# Altium integrated library Microchip Mixed Signal.IntLib: 1063 symbols (part 26 of 28)
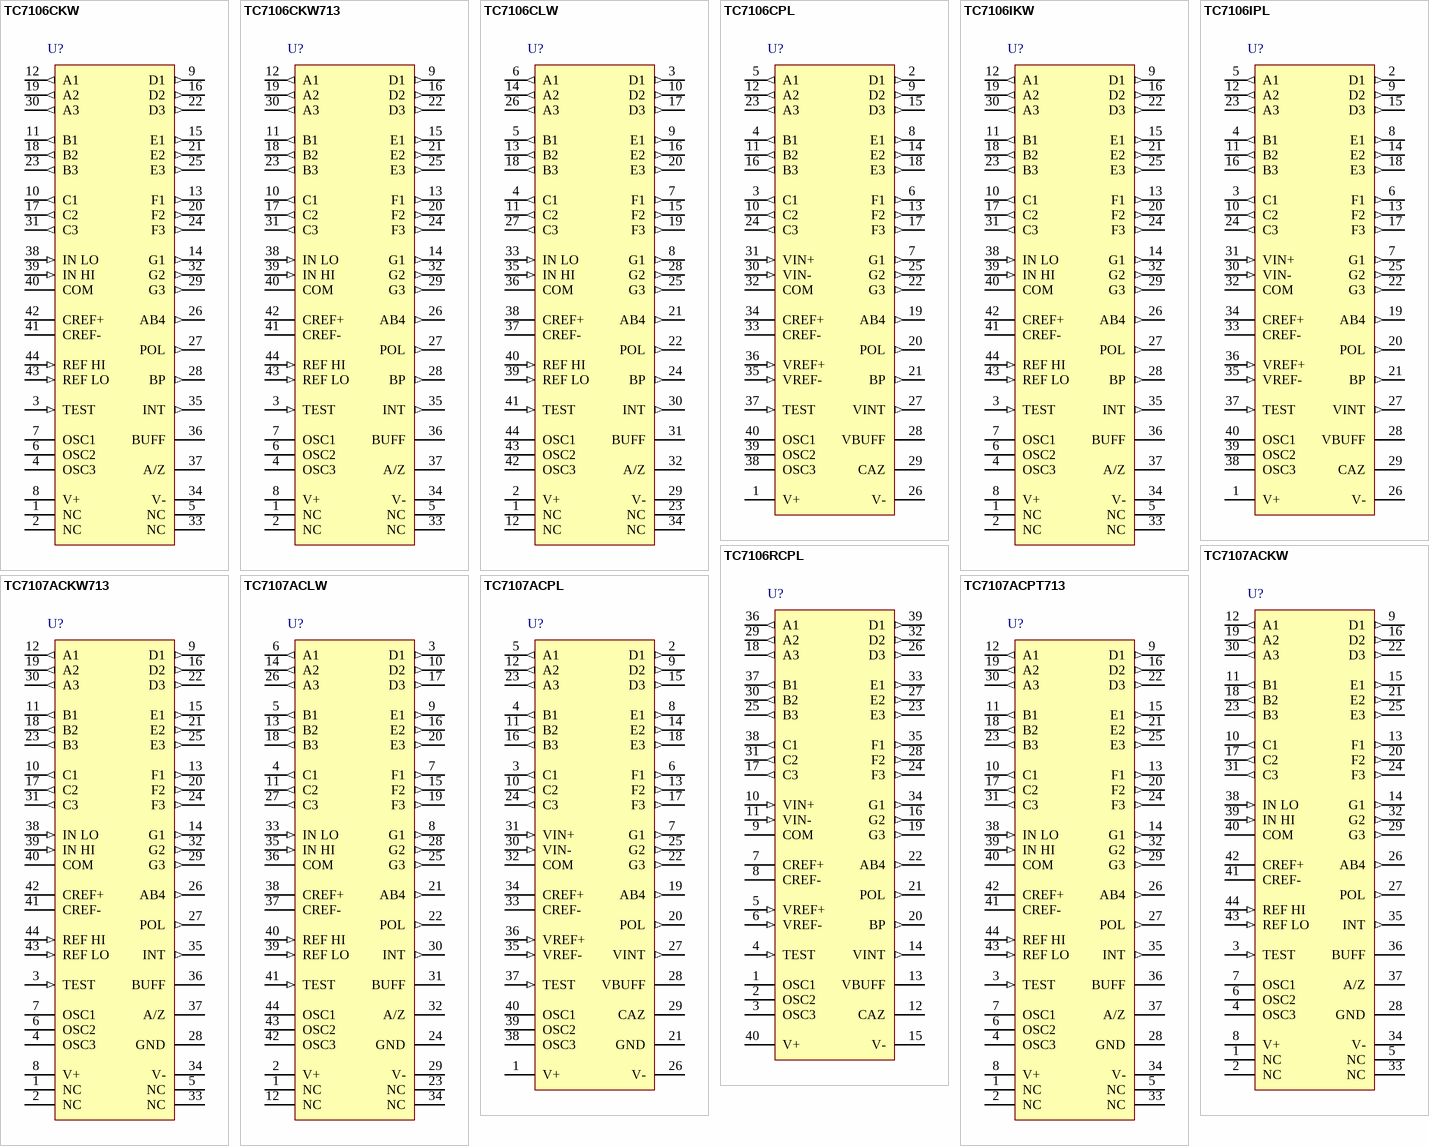
[diagram p56: symbols TC7106CKW to TC7107ACPT713]

## TC7106IPL
designator U?
3-1/2 Digit Analog-to-Digital Converters, 40-Pin PDIP, Industrial Temperature; Published: 29-Jan-2009; DatasheetVersion: revD, Feb-2008; PackageVersion: revBB, Aug-2009; PackageReference: PDIP600-PL40; Publisher: Altium Limited; PackageDescription: 40-Lead Plastic Dual In-Line (PL) - 600mil Body [PDIP]; Supplier 1: Digi-Key; Supplier Part Number 1: TC7106IPL-ND; ComponentLink1Description: Datasheet; ComponentLink1URL: http://ww1.microchip.com/downloads/en/DeviceDoc/21455d.pdf; ComponentLink2Description: Packaging Specification; ComponentLink2URL: http://www.microchip.com/stellent/groups/techpub_sg/documents/packagingspec/en012702.pdf; ComponentLink3Description: Microchip.com Home; ComponentLink3URL: http://www.microchip.com/
footprint PDIP600-PL40 (DIP, 40-Leads, Row Spacing 15.24mm, Pitch 2.54mm, Body 51.8x13.5mm)
pins: 1 V+ (power), 2 D1 (out), 3 C1 (out), 4 B1 (out), 5 A1 (out), 6 F1 (out), 7 G1 (out), 8 E1 (out), 9 D2 (out), 10 C2 (out), 11 B2 (out), 12 A2 (out), 13 F2 (out), 14 E2 (out), 15 D3 (out), 16 B3 (out), 17 F3 (out), 18 E3 (out), 19 AB4 (out), 20 POL (out), 21 BP (out), 22 G3 (out), 23 A3 (out), 24 C3 (out), 25 G2 (out), 26 V- (power), 27 VINT (out), 28 VBUFF, 29 CAZ, 30 VIN- (in), 31 VIN+ (in), 32 COM (power), 33 CREF-, 34 CREF+, 35 VREF- (in), 36 VREF+ (in), 37 TEST (in), 38 OSC3, 39 OSC2, 40 OSC1

## TC7106RCPL
designator U?
3-1/2 Digit Analog-to-Digital Converters, 40-Pin PDIP, Commercial Temperature; Published: 29-Jan-2009; DatasheetVersion: revD, Feb-2008; PackageVersion: revBB, Aug-2009; PackageReference: PDIP600-PL40; Publisher: Altium Limited; PackageDescription: 40-Lead Plastic Dual In-Line (PL) - 600mil Body [PDIP]; Supplier 1: Digi-Key; Supplier Part Number 1: TC7106RCPL-ND; ComponentLink1Description: Datasheet; ComponentLink1URL: http://ww1.microchip.com/downloads/en/DeviceDoc/21455d.pdf; ComponentLink2Description: Packaging Specification; ComponentLink2URL: http://www.microchip.com/stellent/groups/techpub_sg/documents/packagingspec/en012702.pdf; ComponentLink3Description: Microchip.com Home; ComponentLink3URL: http://www.microchip.com/
footprint PDIP600-PL40 (DIP, 40-Leads, Row Spacing 15.24mm, Pitch 2.54mm, Body 51.8x13.5mm)
pins: 1 OSC1, 2 OSC2, 3 OSC3, 4 TEST (in), 5 VREF+ (in), 6 VREF- (in), 7 CREF+, 8 CREF-, 9 COM (power), 10 VIN+ (in), 11 VIN- (in), 12 CAZ, 13 VBUFF, 14 VINT (out), 15 V- (power), 16 G2 (out), 17 C3 (out), 18 A3 (out), 19 G3 (out), 20 BP (out), 21 POL (out), 22 AB4 (out), 23 E3 (out), 24 F3 (out), 25 B3 (out), 26 D3 (out), 27 E2 (out), 28 F2 (out), 29 A2 (out), 30 B2 (out), 31 C2 (out), 32 D2 (out), 33 E1 (out), 34 G1 (out), 35 F1 (out), 36 A1 (out), 37 B1 (out), 38 C1 (out), 39 D1 (out), 40 V+ (power)

## TC7107ACKW
designator U?
3-1/2 Digit Analog-to-Digital Converters, 44-Pin MQFP, Commercial Temperature; Published: 29-Jan-2009; DatasheetVersion: revD, Feb-2008; PackageVersion: revBB, Aug-2009; PackageReference: MQFP-KW44; Publisher: Altium Limited; PackageDescription: 44-Lead Plastic Metric Quad Flatpack (KW) - 10x10x2mm Body, 3.20mm [MQFP]; Supplier 1: Digi-Key; Supplier Part Number 1: TC7107ACKW-ND; Code_JEDEC: MS-022-AB; Code_IPC: QFP80P1320X1320-44; ComponentLink1Description: Datasheet; ComponentLink1URL: http://ww1.microchip.com/downloads/en/DeviceDoc/21455d.pdf; ComponentLink2Description: Packaging Specification; ComponentLink2URL: http://www.microchip.com/stellent/groups/techpub_sg/documents/packagingspec/en012702.pdf; ComponentLink3Description: Microchip.com Home; ComponentLink3URL: http://www.microchip.com/
footprint MQFP-KW44_N (QFP, 44-Leads, Body 10x10mm, Pitch 0.8mm, IPC Medium Density)
footprint MQFP-KW44_L (QFP, 44-Leads, Body 10x10mm, Pitch 0.8mm, IPC High Density)
footprint MQFP-KW44_M (QFP, 44-Leads, Body 10x10mm, Pitch 0.8mm, IPC Low Density)
pins: 1 NC, 2 NC, 3 TEST (in), 4 OSC3, 5 NC, 6 OSC2, 7 OSC1, 8 V+ (power), 9 D1 (out), 10 C1 (out), 11 B1 (out), 12 A1 (out), 13 F1 (out), 14 G1 (out), 15 E1 (out), 16 D2 (out), 17 C2 (out), 18 B2 (out), 19 A2 (out), 20 F2 (out), 21 E2 (out), 22 D3 (out), 23 B3 (out), 24 F3 (out), 25 E3 (out), 26 AB4 (out), 27 POL (out), 28 GND (power), 29 G3 (out), 30 A3 (out), 31 C3 (out), 32 G2 (out), 33 NC, 34 V- (power), 35 INT (out), 36 BUFF, 37 A/Z, 38 IN LO (in), 39 IN HI (in), 40 COM (power), 41 CREF-, 42 CREF+, 43 REF LO (in), 44 REF HI (in)

## TC7107ACKW713
designator U?
3-1/2 Digit Analog-to-Digital Converters, 44-Pin MQFP, Commercial Temperature, Tape and Reel; Published: 29-Jan-2009; DatasheetVersion: revD, Feb-2008; PackageVersion: revBB, Aug-2009; PackageReference: MQFP-KW44; Publisher: Altium Limited; PackageDescription: 44-Lead Plastic Metric Quad Flatpack (KW) - 10x10x2mm Body, 3.20mm [MQFP]; Supplier 1: Digi-Key; Supplier Part Number 1: TC7107ACKW713-ND; Code_JEDEC: MS-022-AB; Code_IPC: QFP80P1320X1320-44; ComponentLink1Description: Datasheet; ComponentLink1URL: http://ww1.microchip.com/downloads/en/DeviceDoc/21455d.pdf; ComponentLink2Description: Packaging Specification; ComponentLink2URL: http://www.microchip.com/stellent/groups/techpub_sg/documents/packagingspec/en012702.pdf; ComponentLink3Description: Microchip.com Home; ComponentLink3URL: http://www.microchip.com/
footprint MQFP-KW44_N (QFP, 44-Leads, Body 10x10mm, Pitch 0.8mm, IPC Medium Density)
footprint MQFP-KW44_L (QFP, 44-Leads, Body 10x10mm, Pitch 0.8mm, IPC High Density)
footprint MQFP-KW44_M (QFP, 44-Leads, Body 10x10mm, Pitch 0.8mm, IPC Low Density)
pins: 1 NC, 2 NC, 3 TEST (in), 4 OSC3, 5 NC, 6 OSC2, 7 OSC1, 8 V+ (power), 9 D1 (out), 10 C1 (out), 11 B1 (out), 12 A1 (out), 13 F1 (out), 14 G1 (out), 15 E1 (out), 16 D2 (out), 17 C2 (out), 18 B2 (out), 19 A2 (out), 20 F2 (out), 21 E2 (out), 22 D3 (out), 23 B3 (out), 24 F3 (out), 25 E3 (out), 26 AB4 (out), 27 POL (out), 28 GND (power), 29 G3 (out), 30 A3 (out), 31 C3 (out), 32 G2 (out), 33 NC, 34 V- (power), 35 INT (out), 36 BUFF, 37 A/Z, 38 IN LO (in), 39 IN HI (in), 40 COM (power), 41 CREF-, 42 CREF+, 43 REF LO (in), 44 REF HI (in)

## TC7107ACLW
designator U?
3-1/2 Digit Analog-to-Digital Converters, 44-Pin PLCC, Commercial Temperature; Published: 29-Jan-2009; DatasheetVersion: revD, Feb-2008; PackageVersion: revBB, Aug-2009; PackageReference: PLCC-LW44; Publisher: Altium Limited; PackageDescription: 44-Lead Plastic Leaded Chip Carrier (LW) - Square [PLCC]; Supplier 1: Digi-Key; Supplier Part Number 1: TC7107ACLW-ND; Supplier 2: Farnell; Supplier Part Number 2: 3011161; Code_IPC: PLCC-44; ComponentLink1Description: Datasheet; ComponentLink1URL: http://ww1.microchip.com/downloads/en/DeviceDoc/21455d.pdf; ComponentLink2Description: Packaging Specification; ComponentLink2URL: http://www.microchip.com/stellent/groups/techpub_sg/documents/packagingspec/en012702.pdf; ComponentLink3Description: Microchip.com Home; ComponentLink3URL: http://www.microchip.com/
footprint PLCC-LW44_N (Leaded Chip Carrier, 44-Leads, Body 16.6x16.6mm, Pitch 1.27mm, IPC Medium Density)
footprint PLCC-LW44_L (Leaded Chip Carrier, 44-Leads, Body 16.6x16.6mm, Pitch 1.27mm, IPC High Density)
footprint PLCC-LW44_M (Leaded Chip Carrier, 44-Leads, Body 16.6x16.6mm, Pitch 1.27mm, IPC Low Density)
pins: 1 NC, 2 V+ (power), 3 D1 (out), 4 C1 (out), 5 B1 (out), 6 A1 (out), 7 F1 (out), 8 G1 (out), 9 E1 (out), 10 D2 (out), 11 C2 (out), 12 NC, 13 B2 (out), 14 A2 (out), 15 F2 (out), 16 E2 (out), 17 D3 (out), 18 B3 (out), 19 F3 (out), 20 E3 (out), 21 AB4 (out), 22 POL (out), 23 NC, 24 GND (power), 25 G3 (out), 26 A3 (out), 27 C3 (out), 28 G2 (out), 29 V- (power), 30 INT (out), 31 BUFF, 32 A/Z, 33 IN LO (in), 34 NC, 35 IN HI (in), 36 COM (power), 37 CREF-, 38 CREF+, 39 REF LO (in), 40 REF HI (in), 41 TEST (in), 42 OSC3, 43 OSC2, 44 OSC1

## TC7107ACPL
designator U?
3-1/2 Digit Analog-to-Digital Converters, 40-Pin PDIP, Commercial Temperature; Published: 29-Jan-2009; DatasheetVersion: revD, Feb-2008; PackageVersion: revBB, Aug-2009; PackageReference: PDIP600-PL40; Publisher: Altium Limited; PackageDescription: 40-Lead Plastic Dual In-Line (PL) - 600mil Body [PDIP]; Supplier 1: Digi-Key; Supplier Part Number 1: TC7107ACPL-ND; Supplier 2: Farnell; Supplier Part Number 2: 1252911; ComponentLink1Description: Datasheet; ComponentLink1URL: http://ww1.microchip.com/downloads/en/DeviceDoc/21455d.pdf; ComponentLink2Description: Packaging Specification; ComponentLink2URL: http://www.microchip.com/stellent/groups/techpub_sg/documents/packagingspec/en012702.pdf; ComponentLink3Description: Microchip.com Home; ComponentLink3URL: http://www.microchip.com/
footprint PDIP600-PL40 (DIP, 40-Leads, Row Spacing 15.24mm, Pitch 2.54mm, Body 51.8x13.5mm)
pins: 1 V+ (power), 2 D1 (out), 3 C1 (out), 4 B1 (out), 5 A1 (out), 6 F1 (out), 7 G1 (out), 8 E1 (out), 9 D2 (out), 10 C2 (out), 11 B2 (out), 12 A2 (out), 13 F2 (out), 14 E2 (out), 15 D3 (out), 16 B3 (out), 17 F3 (out), 18 E3 (out), 19 AB4 (out), 20 POL (out), 21 GND (power), 22 G3 (out), 23 A3 (out), 24 C3 (out), 25 G2 (out), 26 V- (power), 27 VINT (out), 28 VBUFF, 29 CAZ, 30 VIN- (in), 31 VIN+ (in), 32 COM (power), 33 CREF-, 34 CREF+, 35 VREF- (in), 36 VREF+ (in), 37 TEST (in), 38 OSC3, 39 OSC2, 40 OSC1

## TC7107ACPT713
designator U?
3-1/2 Digit Analog-to-Digital Converters, 44-Pin TQFP, Commercial Temperature, Tape and Reel; Published: 2-Dec-2009; DatasheetVersion: revD, Feb-2008; PackageVersion: revBB, Aug-2009; PackageReference: TQFP-PT44; Publisher: Altium Limited; PackageDescription: 44-Lead Plastic Thin Quad Flatpack (PT) - 10x10x1mm Body, 2.00mm [TQFP]; Code_JEDEC: MS-026; ComponentLink1Description: Datasheet; ComponentLink1URL: http://ww1.microchip.com/downloads/en/DeviceDoc/21455d.pdf; ComponentLink2Description: Packaging Specification; ComponentLink2URL: http://www.microchip.com/stellent/groups/techpub_sg/documents/packagingspec/en012702.pdf; ComponentLink3Description: Microchip.com Home; ComponentLink3URL: http://www.microchip.com/
footprint TQFP-PT44_N (Thin QFP, 44-Leads, Body 10x10mm, Pitch 0.8mm, IPC Medium Density)
footprint TQFP-PT44_L (Thin QFP, 44-Leads, Body 10x10mm, Pitch 0.8mm, IPC High Density)
footprint TQFP-PT44_M (Thin QFP, 44-Leads, Body 10x10mm, Pitch 0.8mm, IPC Low Density)
pins: 1 NC, 2 NC, 3 TEST (in), 4 OSC3, 5 NC, 6 OSC2, 7 OSC1, 8 V+ (power), 9 D1 (out), 10 C1 (out), 11 B1 (out), 12 A1 (out), 13 F1 (out), 14 G1 (out), 15 E1 (out), 16 D2 (out), 17 C2 (out), 18 B2 (out), 19 A2 (out), 20 F2 (out), 21 E2 (out), 22 D3 (out), 23 B3 (out), 24 F3 (out), 25 E3 (out), 26 AB4 (out), 27 POL (out), 28 GND (power), 29 G3 (out), 30 A3 (out), 31 C3 (out), 32 G2 (out), 33 NC, 34 V- (power), 35 INT (out), 36 BUFF, 37 A/Z, 38 IN LO (in), 39 IN HI (in), 40 COM (power), 41 CREF-, 42 CREF+, 43 REF LO (in), 44 REF HI (in)

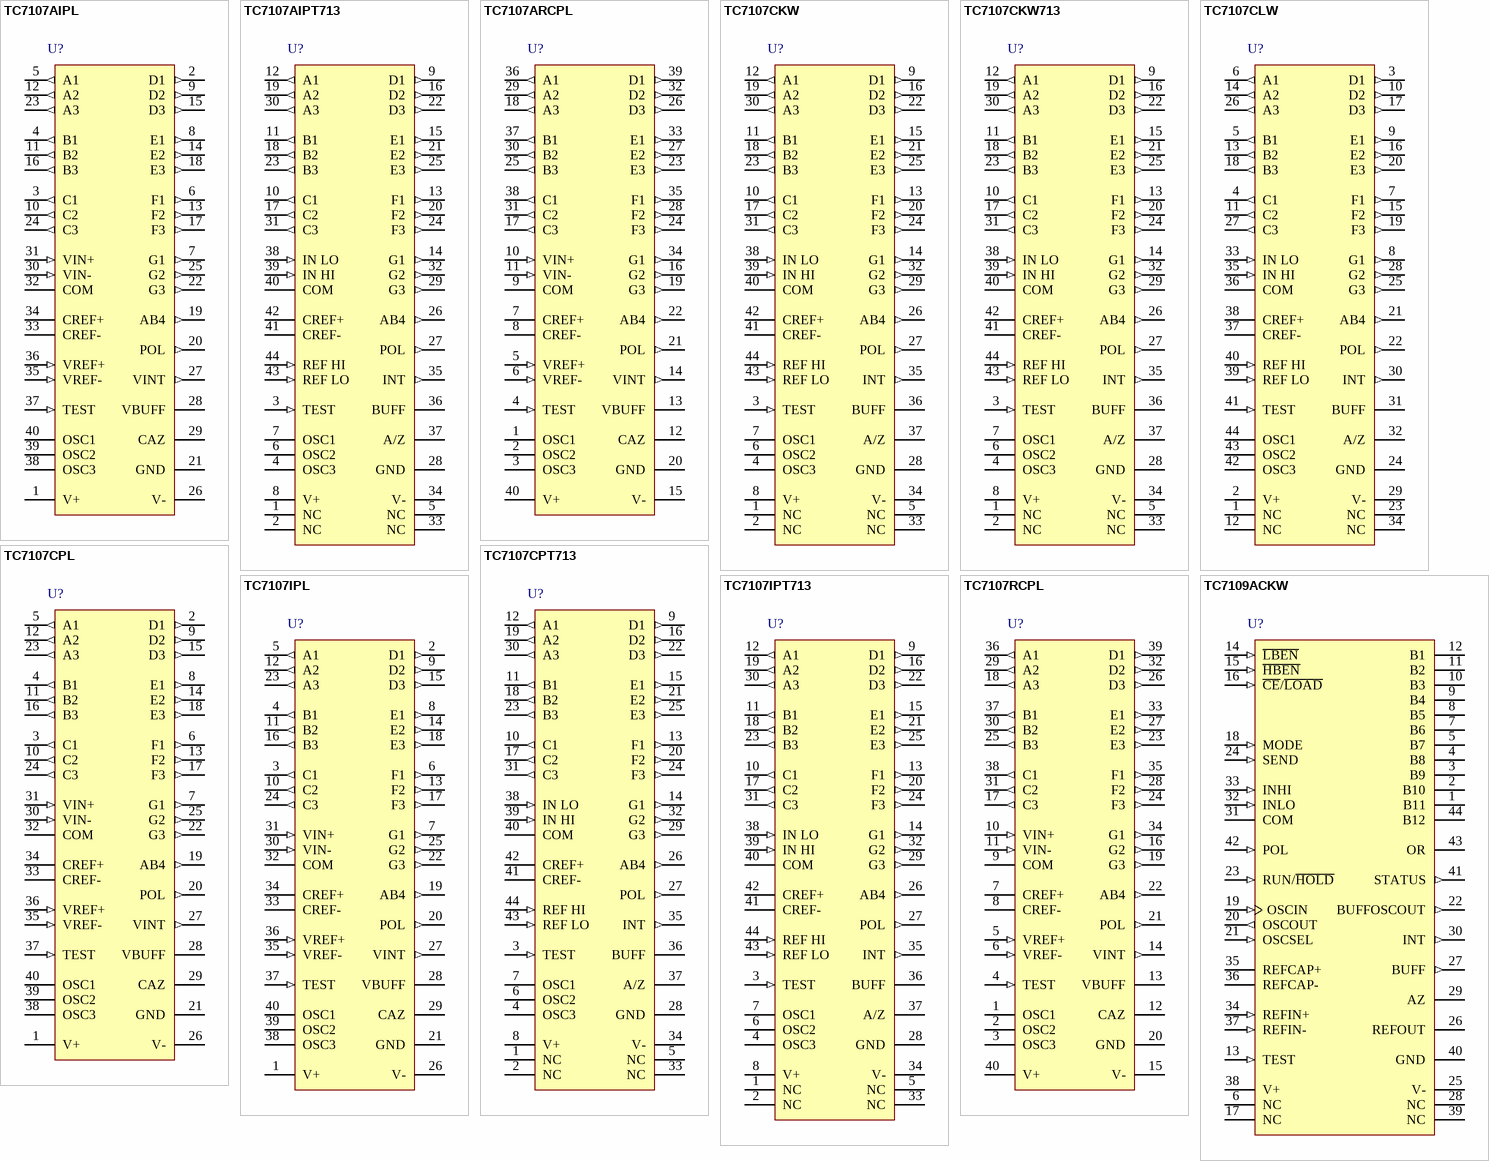
[diagram p27: symbols TC7107AIPL to TC7109ACKW]

## TC7107AIPL
designator U?
3-1/2 Digit Analog-to-Digital Converters, 40-Pin PDIP, Industrial Temperature; Published: 29-Jan-2009; DatasheetVersion: revD, Feb-2008; PackageVersion: revBB, Aug-2009; PackageReference: PDIP600-PL40; Publisher: Altium Limited; PackageDescription: 40-Lead Plastic Dual In-Line (PL) - 600mil Body [PDIP]; Supplier 1: Digi-Key; Supplier Part Number 1: TC7107AIPL-ND; ComponentLink1Description: Datasheet; ComponentLink1URL: http://ww1.microchip.com/downloads/en/DeviceDoc/21455d.pdf; ComponentLink2Description: Packaging Specification; ComponentLink2URL: http://www.microchip.com/stellent/groups/techpub_sg/documents/packagingspec/en012702.pdf; ComponentLink3Description: Microchip.com Home; ComponentLink3URL: http://www.microchip.com/
footprint PDIP600-PL40 (DIP, 40-Leads, Row Spacing 15.24mm, Pitch 2.54mm, Body 51.8x13.5mm)
pins: 1 V+ (power), 2 D1 (out), 3 C1 (out), 4 B1 (out), 5 A1 (out), 6 F1 (out), 7 G1 (out), 8 E1 (out), 9 D2 (out), 10 C2 (out), 11 B2 (out), 12 A2 (out), 13 F2 (out), 14 E2 (out), 15 D3 (out), 16 B3 (out), 17 F3 (out), 18 E3 (out), 19 AB4 (out), 20 POL (out), 21 GND (power), 22 G3 (out), 23 A3 (out), 24 C3 (out), 25 G2 (out), 26 V- (power), 27 VINT (out), 28 VBUFF, 29 CAZ, 30 VIN- (in), 31 VIN+ (in), 32 COM (power), 33 CREF-, 34 CREF+, 35 VREF- (in), 36 VREF+ (in), 37 TEST (in), 38 OSC3, 39 OSC2, 40 OSC1

## TC7107AIPT713
designator U?
3-1/2 Digit Analog-to-Digital Converters, 44-Pin TQFP, Industrial Temperature, Tape and Reel; Published: 2-Dec-2009; DatasheetVersion: revD, Feb-2008; PackageVersion: revBB, Aug-2009; PackageReference: TQFP-PT44; Publisher: Altium Limited; PackageDescription: 44-Lead Plastic Thin Quad Flatpack (PT) - 10x10x1mm Body, 2.00mm [TQFP]; Code_JEDEC: MS-026; ComponentLink1Description: Datasheet; ComponentLink1URL: http://ww1.microchip.com/downloads/en/DeviceDoc/21455d.pdf; ComponentLink2Description: Packaging Specification; ComponentLink2URL: http://www.microchip.com/stellent/groups/techpub_sg/documents/packagingspec/en012702.pdf; ComponentLink3Description: Microchip.com Home; ComponentLink3URL: http://www.microchip.com/
footprint TQFP-PT44_N (Thin QFP, 44-Leads, Body 10x10mm, Pitch 0.8mm, IPC Medium Density)
footprint TQFP-PT44_L (Thin QFP, 44-Leads, Body 10x10mm, Pitch 0.8mm, IPC High Density)
footprint TQFP-PT44_M (Thin QFP, 44-Leads, Body 10x10mm, Pitch 0.8mm, IPC Low Density)
pins: 1 NC, 2 NC, 3 TEST (in), 4 OSC3, 5 NC, 6 OSC2, 7 OSC1, 8 V+ (power), 9 D1 (out), 10 C1 (out), 11 B1 (out), 12 A1 (out), 13 F1 (out), 14 G1 (out), 15 E1 (out), 16 D2 (out), 17 C2 (out), 18 B2 (out), 19 A2 (out), 20 F2 (out), 21 E2 (out), 22 D3 (out), 23 B3 (out), 24 F3 (out), 25 E3 (out), 26 AB4 (out), 27 POL (out), 28 GND (power), 29 G3 (out), 30 A3 (out), 31 C3 (out), 32 G2 (out), 33 NC, 34 V- (power), 35 INT (out), 36 BUFF, 37 A/Z, 38 IN LO (in), 39 IN HI (in), 40 COM (power), 41 CREF-, 42 CREF+, 43 REF LO (in), 44 REF HI (in)

## TC7107ARCPL
designator U?
3-1/2 Digit Analog-to-Digital Converters, 40-Pin PDIP, Commercial Temperature; Published: 29-Jan-2009; DatasheetVersion: revD, Feb-2008; PackageVersion: revBB, Aug-2009; PackageReference: PDIP600-PL40; Publisher: Altium Limited; PackageDescription: 40-Lead Plastic Dual In-Line (PL) - 600mil Body [PDIP]; Supplier 1: Digi-Key; Supplier Part Number 1: TC7107ARCPL-ND; ComponentLink1Description: Datasheet; ComponentLink1URL: http://ww1.microchip.com/downloads/en/DeviceDoc/21455d.pdf; ComponentLink2Description: Packaging Specification; ComponentLink2URL: http://www.microchip.com/stellent/groups/techpub_sg/documents/packagingspec/en012702.pdf; ComponentLink3Description: Microchip.com Home; ComponentLink3URL: http://www.microchip.com/
footprint PDIP600-PL40 (DIP, 40-Leads, Row Spacing 15.24mm, Pitch 2.54mm, Body 51.8x13.5mm)
pins: 1 OSC1, 2 OSC2, 3 OSC3, 4 TEST (in), 5 VREF+ (in), 6 VREF- (in), 7 CREF+, 8 CREF-, 9 COM (power), 10 VIN+ (in), 11 VIN- (in), 12 CAZ, 13 VBUFF, 14 VINT (out), 15 V- (power), 16 G2 (out), 17 C3 (out), 18 A3 (out), 19 G3 (out), 20 GND (power), 21 POL (out), 22 AB4 (out), 23 E3 (out), 24 F3 (out), 25 B3 (out), 26 D3 (out), 27 E2 (out), 28 F2 (out), 29 A2 (out), 30 B2 (out), 31 C2 (out), 32 D2 (out), 33 E1 (out), 34 G1 (out), 35 F1 (out), 36 A1 (out), 37 B1 (out), 38 C1 (out), 39 D1 (out), 40 V+ (power)

## TC7107CKW
designator U?
3-1/2 Digit Analog-to-Digital Converters, 44-Pin MQFP, Commercial Temperature; Published: 29-Jan-2009; DatasheetVersion: revD, Feb-2008; PackageVersion: revBB, Aug-2009; PackageReference: MQFP-KW44; Publisher: Altium Limited; PackageDescription: 44-Lead Plastic Metric Quad Flatpack (KW) - 10x10x2mm Body, 3.20mm [MQFP]; Supplier 1: Digi-Key; Supplier Part Number 1: TC7107CKW-ND; Code_JEDEC: MS-022-AB; Code_IPC: QFP80P1320X1320-44; ComponentLink1Description: Datasheet; ComponentLink1URL: http://ww1.microchip.com/downloads/en/DeviceDoc/21455d.pdf; ComponentLink2Description: Packaging Specification; ComponentLink2URL: http://www.microchip.com/stellent/groups/techpub_sg/documents/packagingspec/en012702.pdf; ComponentLink3Description: Microchip.com Home; ComponentLink3URL: http://www.microchip.com/
footprint MQFP-KW44_N (QFP, 44-Leads, Body 10x10mm, Pitch 0.8mm, IPC Medium Density)
footprint MQFP-KW44_L (QFP, 44-Leads, Body 10x10mm, Pitch 0.8mm, IPC High Density)
footprint MQFP-KW44_M (QFP, 44-Leads, Body 10x10mm, Pitch 0.8mm, IPC Low Density)
pins: 1 NC, 2 NC, 3 TEST (in), 4 OSC3, 5 NC, 6 OSC2, 7 OSC1, 8 V+ (power), 9 D1 (out), 10 C1 (out), 11 B1 (out), 12 A1 (out), 13 F1 (out), 14 G1 (out), 15 E1 (out), 16 D2 (out), 17 C2 (out), 18 B2 (out), 19 A2 (out), 20 F2 (out), 21 E2 (out), 22 D3 (out), 23 B3 (out), 24 F3 (out), 25 E3 (out), 26 AB4 (out), 27 POL (out), 28 GND (power), 29 G3 (out), 30 A3 (out), 31 C3 (out), 32 G2 (out), 33 NC, 34 V- (power), 35 INT (out), 36 BUFF, 37 A/Z, 38 IN LO (in), 39 IN HI (in), 40 COM (power), 41 CREF-, 42 CREF+, 43 REF LO (in), 44 REF HI (in)

## TC7107CKW713
designator U?
3-1/2 Digit Analog-to-Digital Converters, 44-Pin MQFP, Commercial Temperature, Tape and Reel; Published: 29-Jan-2009; DatasheetVersion: revD, Feb-2008; PackageVersion: revBB, Aug-2009; PackageReference: MQFP-KW44; Publisher: Altium Limited; PackageDescription: 44-Lead Plastic Metric Quad Flatpack (KW) - 10x10x2mm Body, 3.20mm [MQFP]; Supplier 1: Digi-Key; Supplier Part Number 1: TC7107CKW713-ND; Code_JEDEC: MS-022-AB; Code_IPC: QFP80P1320X1320-44; ComponentLink1Description: Datasheet; ComponentLink1URL: http://ww1.microchip.com/downloads/en/DeviceDoc/21455d.pdf; ComponentLink2Description: Packaging Specification; ComponentLink2URL: http://www.microchip.com/stellent/groups/techpub_sg/documents/packagingspec/en012702.pdf; ComponentLink3Description: Microchip.com Home; ComponentLink3URL: http://www.microchip.com/
footprint MQFP-KW44_N (QFP, 44-Leads, Body 10x10mm, Pitch 0.8mm, IPC Medium Density)
footprint MQFP-KW44_L (QFP, 44-Leads, Body 10x10mm, Pitch 0.8mm, IPC High Density)
footprint MQFP-KW44_M (QFP, 44-Leads, Body 10x10mm, Pitch 0.8mm, IPC Low Density)
pins: 1 NC, 2 NC, 3 TEST (in), 4 OSC3, 5 NC, 6 OSC2, 7 OSC1, 8 V+ (power), 9 D1 (out), 10 C1 (out), 11 B1 (out), 12 A1 (out), 13 F1 (out), 14 G1 (out), 15 E1 (out), 16 D2 (out), 17 C2 (out), 18 B2 (out), 19 A2 (out), 20 F2 (out), 21 E2 (out), 22 D3 (out), 23 B3 (out), 24 F3 (out), 25 E3 (out), 26 AB4 (out), 27 POL (out), 28 GND (power), 29 G3 (out), 30 A3 (out), 31 C3 (out), 32 G2 (out), 33 NC, 34 V- (power), 35 INT (out), 36 BUFF, 37 A/Z, 38 IN LO (in), 39 IN HI (in), 40 COM (power), 41 CREF-, 42 CREF+, 43 REF LO (in), 44 REF HI (in)

## TC7107CLW
designator U?
3-1/2 Digit Analog-to-Digital Converters, 44-Pin PLCC, Commercial Temperature; Published: 29-Jan-2009; DatasheetVersion: revD, Feb-2008; PackageVersion: revBB, Aug-2009; PackageReference: PLCC-LW44; Publisher: Altium Limited; PackageDescription: 44-Lead Plastic Leaded Chip Carrier (LW) - Square [PLCC]; Supplier 1: Digi-Key; Supplier Part Number 1: TC7107CLW-ND; Code_IPC: PLCC-44; ComponentLink1Description: Datasheet; ComponentLink1URL: http://ww1.microchip.com/downloads/en/DeviceDoc/21455d.pdf; ComponentLink2Description: Packaging Specification; ComponentLink2URL: http://www.microchip.com/stellent/groups/techpub_sg/documents/packagingspec/en012702.pdf; ComponentLink3Description: Microchip.com Home; ComponentLink3URL: http://www.microchip.com/
footprint PLCC-LW44_N (Leaded Chip Carrier, 44-Leads, Body 16.6x16.6mm, Pitch 1.27mm, IPC Medium Density)
footprint PLCC-LW44_L (Leaded Chip Carrier, 44-Leads, Body 16.6x16.6mm, Pitch 1.27mm, IPC High Density)
footprint PLCC-LW44_M (Leaded Chip Carrier, 44-Leads, Body 16.6x16.6mm, Pitch 1.27mm, IPC Low Density)
pins: 1 NC, 2 V+ (power), 3 D1 (out), 4 C1 (out), 5 B1 (out), 6 A1 (out), 7 F1 (out), 8 G1 (out), 9 E1 (out), 10 D2 (out), 11 C2 (out), 12 NC, 13 B2 (out), 14 A2 (out), 15 F2 (out), 16 E2 (out), 17 D3 (out), 18 B3 (out), 19 F3 (out), 20 E3 (out), 21 AB4 (out), 22 POL (out), 23 NC, 24 GND (power), 25 G3 (out), 26 A3 (out), 27 C3 (out), 28 G2 (out), 29 V- (power), 30 INT (out), 31 BUFF, 32 A/Z, 33 IN LO (in), 34 NC, 35 IN HI (in), 36 COM (power), 37 CREF-, 38 CREF+, 39 REF LO (in), 40 REF HI (in), 41 TEST (in), 42 OSC3, 43 OSC2, 44 OSC1

## TC7107CPL
designator U?
3-1/2 Digit Analog-to-Digital Converters, 40-Pin PDIP, Commercial Temperature; Published: 29-Jan-2009; DatasheetVersion: revD, Feb-2008; PackageVersion: revBB, Aug-2009; PackageReference: PDIP600-PL40; Publisher: Altium Limited; PackageDescription: 40-Lead Plastic Dual In-Line (PL) - 600mil Body [PDIP]; Supplier 1: Digi-Key; Supplier Part Number 1: TC7107CPL-ND; Supplier 2: Farnell; Supplier Part Number 2: 1196783; ComponentLink1Description: Datasheet; ComponentLink1URL: http://ww1.microchip.com/downloads/en/DeviceDoc/21455d.pdf; ComponentLink2Description: Packaging Specification; ComponentLink2URL: http://www.microchip.com/stellent/groups/techpub_sg/documents/packagingspec/en012702.pdf; ComponentLink3Description: Microchip.com Home; ComponentLink3URL: http://www.microchip.com/
footprint PDIP600-PL40 (DIP, 40-Leads, Row Spacing 15.24mm, Pitch 2.54mm, Body 51.8x13.5mm)
pins: 1 V+ (power), 2 D1 (out), 3 C1 (out), 4 B1 (out), 5 A1 (out), 6 F1 (out), 7 G1 (out), 8 E1 (out), 9 D2 (out), 10 C2 (out), 11 B2 (out), 12 A2 (out), 13 F2 (out), 14 E2 (out), 15 D3 (out), 16 B3 (out), 17 F3 (out), 18 E3 (out), 19 AB4 (out), 20 POL (out), 21 GND (power), 22 G3 (out), 23 A3 (out), 24 C3 (out), 25 G2 (out), 26 V- (power), 27 VINT (out), 28 VBUFF, 29 CAZ, 30 VIN- (in), 31 VIN+ (in), 32 COM (power), 33 CREF-, 34 CREF+, 35 VREF- (in), 36 VREF+ (in), 37 TEST (in), 38 OSC3, 39 OSC2, 40 OSC1

## TC7107CPT713
designator U?
3-1/2 Digit Analog-to-Digital Converters, 44-Pin TQFP, Commercial Temperature, Tape and Reel; Published: 2-Dec-2009; DatasheetVersion: revD, Feb-2008; PackageVersion: revBB, Aug-2009; PackageReference: TQFP-PT44; Publisher: Altium Limited; PackageDescription: 44-Lead Plastic Thin Quad Flatpack (PT) - 10x10x1mm Body, 2.00mm [TQFP]; Code_JEDEC: MS-026; ComponentLink1Description: Datasheet; ComponentLink1URL: http://ww1.microchip.com/downloads/en/DeviceDoc/21455d.pdf; ComponentLink2Description: Packaging Specification; ComponentLink2URL: http://www.microchip.com/stellent/groups/techpub_sg/documents/packagingspec/en012702.pdf; ComponentLink3Description: Microchip.com Home; ComponentLink3URL: http://www.microchip.com/
footprint TQFP-PT44_N (Thin QFP, 44-Leads, Body 10x10mm, Pitch 0.8mm, IPC Medium Density)
footprint TQFP-PT44_L (Thin QFP, 44-Leads, Body 10x10mm, Pitch 0.8mm, IPC High Density)
footprint TQFP-PT44_M (Thin QFP, 44-Leads, Body 10x10mm, Pitch 0.8mm, IPC Low Density)
pins: 1 NC, 2 NC, 3 TEST (in), 4 OSC3, 5 NC, 6 OSC2, 7 OSC1, 8 V+ (power), 9 D1 (out), 10 C1 (out), 11 B1 (out), 12 A1 (out), 13 F1 (out), 14 G1 (out), 15 E1 (out), 16 D2 (out), 17 C2 (out), 18 B2 (out), 19 A2 (out), 20 F2 (out), 21 E2 (out), 22 D3 (out), 23 B3 (out), 24 F3 (out), 25 E3 (out), 26 AB4 (out), 27 POL (out), 28 GND (power), 29 G3 (out), 30 A3 (out), 31 C3 (out), 32 G2 (out), 33 NC, 34 V- (power), 35 INT (out), 36 BUFF, 37 A/Z, 38 IN LO (in), 39 IN HI (in), 40 COM (power), 41 CREF-, 42 CREF+, 43 REF LO (in), 44 REF HI (in)

## TC7107IPL
designator U?
3-1/2 Digit Analog-to-Digital Converters, 40-Pin PDIP, Industrial Temperature; Published: 29-Jan-2009; DatasheetVersion: revD, Feb-2008; PackageVersion: revBB, Aug-2009; PackageReference: PDIP600-PL40; Publisher: Altium Limited; PackageDescription: 40-Lead Plastic Dual In-Line (PL) - 600mil Body [PDIP]; Supplier 1: Digi-Key; Supplier Part Number 1: TC7107IPL-ND; ComponentLink1Description: Datasheet; ComponentLink1URL: http://ww1.microchip.com/downloads/en/DeviceDoc/21455d.pdf; ComponentLink2Description: Packaging Specification; ComponentLink2URL: http://www.microchip.com/stellent/groups/techpub_sg/documents/packagingspec/en012702.pdf; ComponentLink3Description: Microchip.com Home; ComponentLink3URL: http://www.microchip.com/
footprint PDIP600-PL40 (DIP, 40-Leads, Row Spacing 15.24mm, Pitch 2.54mm, Body 51.8x13.5mm)
pins: 1 V+ (power), 2 D1 (out), 3 C1 (out), 4 B1 (out), 5 A1 (out), 6 F1 (out), 7 G1 (out), 8 E1 (out), 9 D2 (out), 10 C2 (out), 11 B2 (out), 12 A2 (out), 13 F2 (out), 14 E2 (out), 15 D3 (out), 16 B3 (out), 17 F3 (out), 18 E3 (out), 19 AB4 (out), 20 POL (out), 21 GND (power), 22 G3 (out), 23 A3 (out), 24 C3 (out), 25 G2 (out), 26 V- (power), 27 VINT (out), 28 VBUFF, 29 CAZ, 30 VIN- (in), 31 VIN+ (in), 32 COM (power), 33 CREF-, 34 CREF+, 35 VREF- (in), 36 VREF+ (in), 37 TEST (in), 38 OSC3, 39 OSC2, 40 OSC1

## TC7107IPT713
designator U?
3-1/2 Digit Analog-to-Digital Converters, 44-Pin TQFP, Industrial Temperature, Tape and Reel; Published: 2-Dec-2009; DatasheetVersion: revD, Feb-2008; PackageVersion: revBB, Aug-2009; PackageReference: TQFP-PT44; Publisher: Altium Limited; PackageDescription: 44-Lead Plastic Thin Quad Flatpack (PT) - 10x10x1mm Body, 2.00mm [TQFP]; Code_JEDEC: MS-026; ComponentLink1Description: Datasheet; ComponentLink1URL: http://ww1.microchip.com/downloads/en/DeviceDoc/21455d.pdf; ComponentLink2Description: Packaging Specification; ComponentLink2URL: http://www.microchip.com/stellent/groups/techpub_sg/documents/packagingspec/en012702.pdf; ComponentLink3Description: Microchip.com Home; ComponentLink3URL: http://www.microchip.com/
footprint TQFP-PT44_N (Thin QFP, 44-Leads, Body 10x10mm, Pitch 0.8mm, IPC Medium Density)
footprint TQFP-PT44_L (Thin QFP, 44-Leads, Body 10x10mm, Pitch 0.8mm, IPC High Density)
footprint TQFP-PT44_M (Thin QFP, 44-Leads, Body 10x10mm, Pitch 0.8mm, IPC Low Density)
pins: 1 NC, 2 NC, 3 TEST (in), 4 OSC3, 5 NC, 6 OSC2, 7 OSC1, 8 V+ (power), 9 D1 (out), 10 C1 (out), 11 B1 (out), 12 A1 (out), 13 F1 (out), 14 G1 (out), 15 E1 (out), 16 D2 (out), 17 C2 (out), 18 B2 (out), 19 A2 (out), 20 F2 (out), 21 E2 (out), 22 D3 (out), 23 B3 (out), 24 F3 (out), 25 E3 (out), 26 AB4 (out), 27 POL (out), 28 GND (power), 29 G3 (out), 30 A3 (out), 31 C3 (out), 32 G2 (out), 33 NC, 34 V- (power), 35 INT (out), 36 BUFF, 37 A/Z, 38 IN LO (in), 39 IN HI (in), 40 COM (power), 41 CREF-, 42 CREF+, 43 REF LO (in), 44 REF HI (in)

## TC7107RCPL
designator U?
3-1/2 Digit Analog-to-Digital Converters, 40-Pin PDIP, Commercial Temperature; Published: 29-Jan-2009; DatasheetVersion: revD, Feb-2008; PackageVersion: revBB, Aug-2009; PackageReference: PDIP600-PL40; Publisher: Altium Limited; PackageDescription: 40-Lead Plastic Dual In-Line (PL) - 600mil Body [PDIP]; Supplier 1: Digi-Key; Supplier Part Number 1: TC7107RCPL-ND; Supplier 2: Farnell; Supplier Part Number 2: 1221761; ComponentLink1Description: Datasheet; ComponentLink1URL: http://ww1.microchip.com/downloads/en/DeviceDoc/21455d.pdf; ComponentLink2Description: Packaging Specification; ComponentLink2URL: http://www.microchip.com/stellent/groups/techpub_sg/documents/packagingspec/en012702.pdf; ComponentLink3Description: Microchip.com Home; ComponentLink3URL: http://www.microchip.com/
footprint PDIP600-PL40 (DIP, 40-Leads, Row Spacing 15.24mm, Pitch 2.54mm, Body 51.8x13.5mm)
pins: 1 OSC1, 2 OSC2, 3 OSC3, 4 TEST (in), 5 VREF+ (in), 6 VREF- (in), 7 CREF+, 8 CREF-, 9 COM (power), 10 VIN+ (in), 11 VIN- (in), 12 CAZ, 13 VBUFF, 14 VINT (out), 15 V- (power), 16 G2 (out), 17 C3 (out), 18 A3 (out), 19 G3 (out), 20 GND (power), 21 POL (out), 22 AB4 (out), 23 E3 (out), 24 F3 (out), 25 B3 (out), 26 D3 (out), 27 E2 (out), 28 F2 (out), 29 A2 (out), 30 B2 (out), 31 C2 (out), 32 D2 (out), 33 E1 (out), 34 G1 (out), 35 F1 (out), 36 A1 (out), 37 B1 (out), 38 C1 (out), 39 D1 (out), 40 V+ (power)

## TC7109ACKW
designator U?
12-Bit µA-Compatible Analog-to-Digital Converters, 44-Pin MQFP, Commercial Temperature; Published: 29-Jan-2009; DatasheetVersion: Feb-2006; PackageVersion: revBB, Aug-2009; PackageReference: MQFP-KW44; Publisher: Altium Limited; PackageDescription: 44-Lead Plastic Metric Quad Flatpack (KW) - 10x10x2mm Body, 3.20mm [MQFP]; Supplier 1: Digi-Key; Supplier Part Number 1: TC7109ACKW-ND; Code_JEDEC: MS-022-AB; Code_IPC: QFP80P1320X1320-44; ComponentLink1Description: Datasheet; ComponentLink1URL: http://ww1.microchip.com/downloads/en/DeviceDoc/21456C.pdf; ComponentLink2Description: Packaging Specification; ComponentLink2URL: http://www.microchip.com/stellent/groups/techpub_sg/documents/packagingspec/en012702.pdf; ComponentLink3Description: Microchip.com Home; ComponentLink3URL: http://www.microchip.com/
footprint MQFP-KW44_N (QFP, 44-Leads, Body 10x10mm, Pitch 0.8mm, IPC Medium Density)
footprint MQFP-KW44_L (QFP, 44-Leads, Body 10x10mm, Pitch 0.8mm, IPC High Density)
footprint MQFP-KW44_M (QFP, 44-Leads, Body 10x10mm, Pitch 0.8mm, IPC Low Density)
pins: 1 B11 (hiz), 2 B10 (hiz), 3 B9 (hiz), 4 B8 (hiz), 5 B7 (hiz), 6 NC, 7 B6 (hiz), 8 B5 (hiz), 9 B4 (hiz), 10 B3 (hiz), 11 B2 (hiz), 12 B1 (hiz), 13 TEST (in), 14 ~{LBEN} (in), 15 ~{HBEN} (in), 16 ~{CE}/~{LOAD} (in), 17 NC, 18 MODE (in), 19 OSCIN (in), 20 OSCOUT (out), 21 OSCSEL (in), 22 BUFFOSCOUT (out), 23 RUN/~{HOLD} (in), 24 SEND (in), 25 V- (power), 26 REFOUT (power), 27 BUFF (out), 28 NC, 29 AZ, 30 INT (out), 31 COM (power), 32 INLO (in), 33 INHI (in), 34 REFIN+ (in), 35 REFCAP+, 36 REFCAP-, 37 REFIN- (in), 38 V+ (power), 39 NC, 40 GND (power), 41 STATUS (out), 42 POL (in), 43 OR (hiz), 44 B12 (hiz)

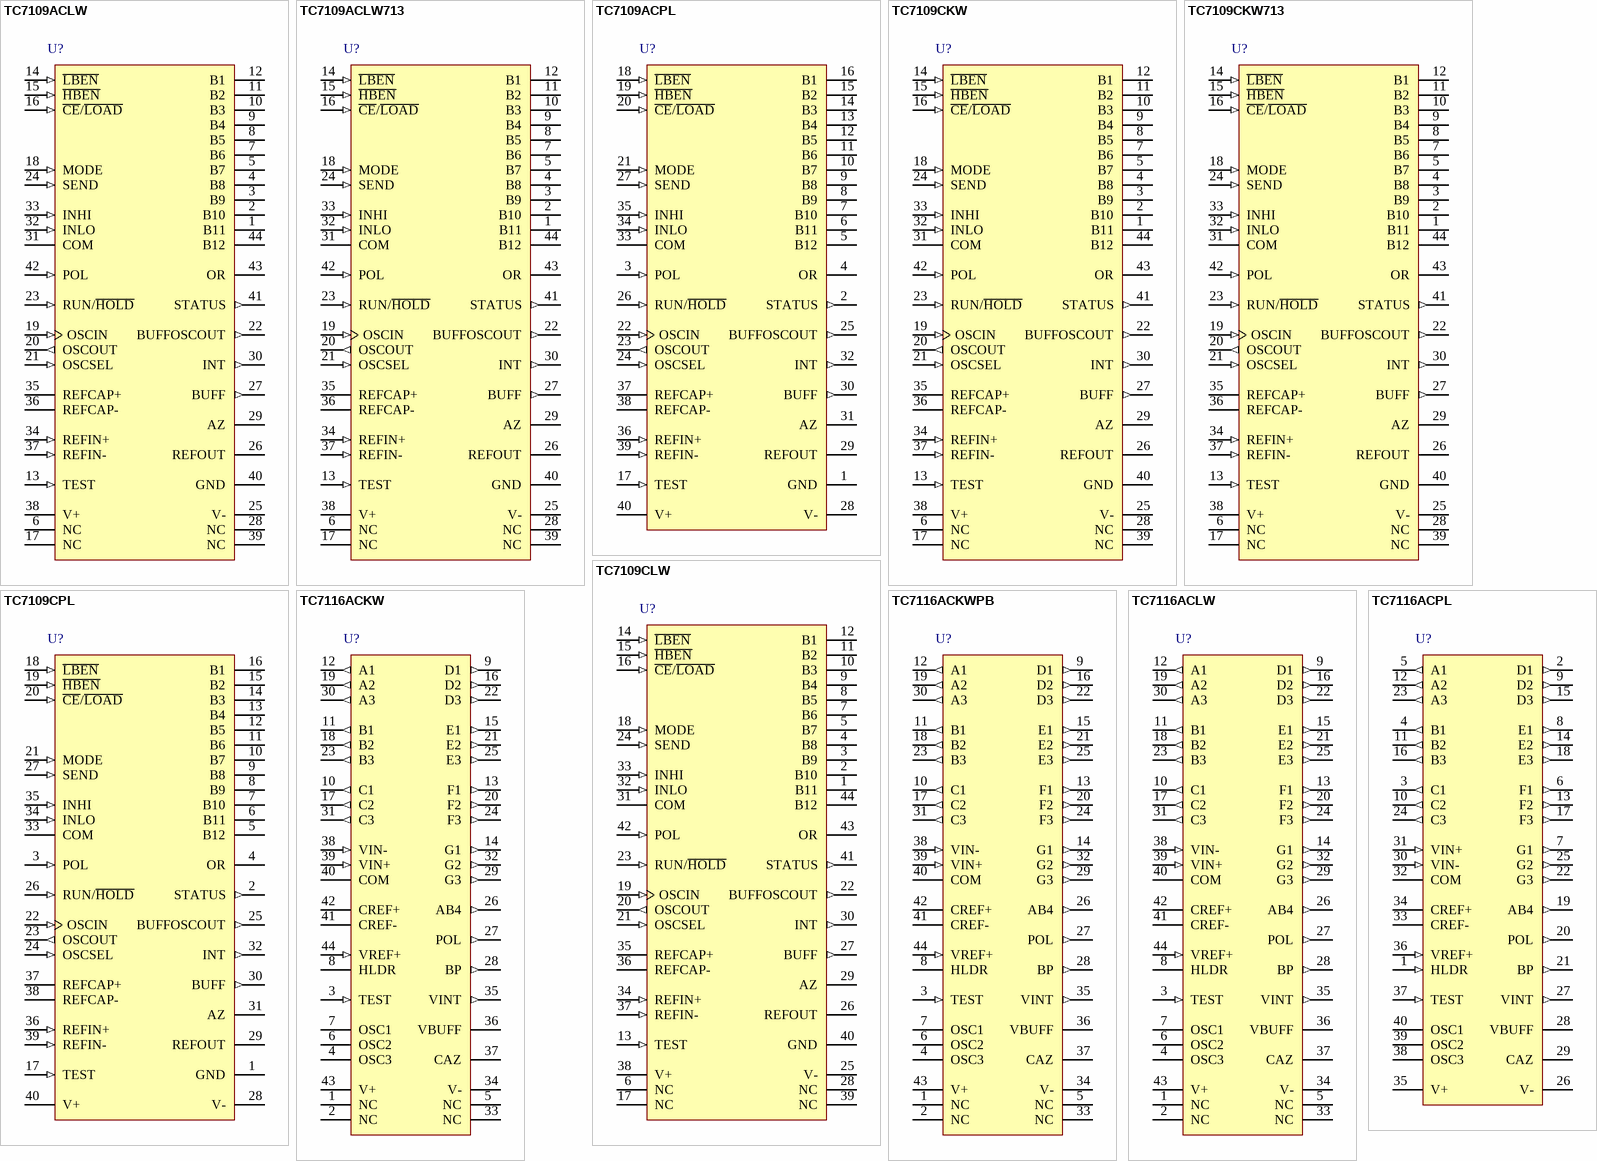
[diagram p28: symbols TC7109ACLW to TC7116ACPL]

## TC7109ACLW
designator U?
12-Bit µA-Compatible Analog-to-Digital Converters, 44-Pin PLCC, Commercial Temperature; Published: 29-Jan-2009; DatasheetVersion: Feb-2006; PackageVersion: revBB, Aug-2009; PackageReference: PLCC-LW44; Publisher: Altium Limited; PackageDescription: 44-Lead Plastic Leaded Chip Carrier (LW) - Square [PLCC]; Supplier 1: Digi-Key; Supplier Part Number 1: TC7109ACLW-ND; Code_IPC: PLCC-44; ComponentLink1Description: Datasheet; ComponentLink1URL: http://ww1.microchip.com/downloads/en/DeviceDoc/21456C.pdf; ComponentLink2Description: Packaging Specification; ComponentLink2URL: http://www.microchip.com/stellent/groups/techpub_sg/documents/packagingspec/en012702.pdf; ComponentLink3Description: Microchip.com Home; ComponentLink3URL: http://www.microchip.com/
footprint PLCC-LW44_N (Leaded Chip Carrier, 44-Leads, Body 16.6x16.6mm, Pitch 1.27mm, IPC Medium Density)
footprint PLCC-LW44_L (Leaded Chip Carrier, 44-Leads, Body 16.6x16.6mm, Pitch 1.27mm, IPC High Density)
footprint PLCC-LW44_M (Leaded Chip Carrier, 44-Leads, Body 16.6x16.6mm, Pitch 1.27mm, IPC Low Density)
pins: 1 B11 (hiz), 2 B10 (hiz), 3 B9 (hiz), 4 B8 (hiz), 5 B7 (hiz), 6 NC, 7 B6 (hiz), 8 B5 (hiz), 9 B4 (hiz), 10 B3 (hiz), 11 B2 (hiz), 12 B1 (hiz), 13 TEST (in), 14 ~{LBEN} (in), 15 ~{HBEN} (in), 16 ~{CE}/~{LOAD} (in), 17 NC, 18 MODE (in), 19 OSCIN (in), 20 OSCOUT (out), 21 OSCSEL (in), 22 BUFFOSCOUT (out), 23 RUN/~{HOLD} (in), 24 SEND (in), 25 V- (power), 26 REFOUT (power), 27 BUFF (out), 28 NC, 29 AZ, 30 INT (out), 31 COM (power), 32 INLO (in), 33 INHI (in), 34 REFIN+ (in), 35 REFCAP+, 36 REFCAP-, 37 REFIN- (in), 38 V+ (power), 39 NC, 40 GND (power), 41 STATUS (out), 42 POL (in), 43 OR (hiz), 44 B12 (hiz)

## TC7109ACLW713
designator U?
12-Bit µA-Compatible Analog-to-Digital Converters, 44-Pin PLCC, Commercial Temperature, Tape and Reel; Published: 29-Jan-2009; DatasheetVersion: Feb-2006; PackageVersion: revBB, Aug-2009; PackageReference: PLCC-LW44; Publisher: Altium Limited; PackageDescription: 44-Lead Plastic Leaded Chip Carrier (LW) - Square [PLCC]; Supplier 1: Digi-Key; Supplier Part Number 1: TC7109ACLW713-ND; Code_IPC: PLCC-44; ComponentLink1Description: Datasheet; ComponentLink1URL: http://ww1.microchip.com/downloads/en/DeviceDoc/21456C.pdf; ComponentLink2Description: Packaging Specification; ComponentLink2URL: http://www.microchip.com/stellent/groups/techpub_sg/documents/packagingspec/en012702.pdf; ComponentLink3Description: Microchip.com Home; ComponentLink3URL: http://www.microchip.com/
footprint PLCC-LW44_N (Leaded Chip Carrier, 44-Leads, Body 16.6x16.6mm, Pitch 1.27mm, IPC Medium Density)
footprint PLCC-LW44_L (Leaded Chip Carrier, 44-Leads, Body 16.6x16.6mm, Pitch 1.27mm, IPC High Density)
footprint PLCC-LW44_M (Leaded Chip Carrier, 44-Leads, Body 16.6x16.6mm, Pitch 1.27mm, IPC Low Density)
pins: 1 B11 (hiz), 2 B10 (hiz), 3 B9 (hiz), 4 B8 (hiz), 5 B7 (hiz), 6 NC, 7 B6 (hiz), 8 B5 (hiz), 9 B4 (hiz), 10 B3 (hiz), 11 B2 (hiz), 12 B1 (hiz), 13 TEST (in), 14 ~{LBEN} (in), 15 ~{HBEN} (in), 16 ~{CE}/~{LOAD} (in), 17 NC, 18 MODE (in), 19 OSCIN (in), 20 OSCOUT (out), 21 OSCSEL (in), 22 BUFFOSCOUT (out), 23 RUN/~{HOLD} (in), 24 SEND (in), 25 V- (power), 26 REFOUT (power), 27 BUFF (out), 28 NC, 29 AZ, 30 INT (out), 31 COM (power), 32 INLO (in), 33 INHI (in), 34 REFIN+ (in), 35 REFCAP+, 36 REFCAP-, 37 REFIN- (in), 38 V+ (power), 39 NC, 40 GND (power), 41 STATUS (out), 42 POL (in), 43 OR (hiz), 44 B12 (hiz)

## TC7109ACPL
designator U?
12-Bit µA-Compatible Analog-to-Digital Converters, 40-Pin PDIP, Commercial Temperature; Published: 29-Jan-2009; DatasheetVersion: Feb-2006; PackageVersion: revBB, Aug-2009; PackageReference: PDIP600-PL40; Publisher: Altium Limited; PackageDescription: 40-Lead Plastic Dual In-Line (PL) - 600mil Body [PDIP]; Supplier 1: Digi-Key; Supplier Part Number 1: TC7109ACPL-ND; ComponentLink1Description: Datasheet; ComponentLink1URL: http://ww1.microchip.com/downloads/en/DeviceDoc/21456C.pdf; ComponentLink2Description: Packaging Specification; ComponentLink2URL: http://www.microchip.com/stellent/groups/techpub_sg/documents/packagingspec/en012702.pdf; ComponentLink3Description: Microchip.com Home; ComponentLink3URL: http://www.microchip.com/
footprint PDIP600-PL40 (DIP, 40-Leads, Row Spacing 15.24mm, Pitch 2.54mm, Body 51.8x13.5mm)
pins: 1 GND (power), 2 STATUS (out), 3 POL (in), 4 OR (hiz), 5 B12 (hiz), 6 B11 (hiz), 7 B10 (hiz), 8 B9 (hiz), 9 B8 (hiz), 10 B7 (hiz), 11 B6 (hiz), 12 B5 (hiz), 13 B4 (hiz), 14 B3 (hiz), 15 B2 (hiz), 16 B1 (hiz), 17 TEST (in), 18 ~{LBEN} (in), 19 ~{HBEN} (in), 20 ~{CE}/~{LOAD} (in), 21 MODE (in), 22 OSCIN (in), 23 OSCOUT (out), 24 OSCSEL (in), 25 BUFFOSCOUT (out), 26 RUN/~{HOLD} (in), 27 SEND (in), 28 V- (power), 29 REFOUT (power), 30 BUFF (out), 31 AZ, 32 INT (out), 33 COM (power), 34 INLO (in), 35 INHI (in), 36 REFIN+ (in), 37 REFCAP+, 38 REFCAP-, 39 REFIN- (in), 40 V+ (power)

## TC7109CKW
designator U?
12-Bit µA-Compatible Analog-to-Digital Converters, 44-Pin MQFP, Commercial Temperature; Published: 29-Jan-2009; DatasheetVersion: Feb-2006; PackageVersion: revBB, Aug-2009; PackageReference: MQFP-KW44; Publisher: Altium Limited; PackageDescription: 44-Lead Plastic Metric Quad Flatpack (KW) - 10x10x2mm Body, 3.20mm [MQFP]; Supplier 1: Digi-Key; Supplier Part Number 1: TC7109CKW-ND; Code_JEDEC: MS-022-AB; Code_IPC: QFP80P1320X1320-44; ComponentLink1Description: Datasheet; ComponentLink1URL: http://ww1.microchip.com/downloads/en/DeviceDoc/21456C.pdf; ComponentLink2Description: Packaging Specification; ComponentLink2URL: http://www.microchip.com/stellent/groups/techpub_sg/documents/packagingspec/en012702.pdf; ComponentLink3Description: Microchip.com Home; ComponentLink3URL: http://www.microchip.com/
footprint MQFP-KW44_N (QFP, 44-Leads, Body 10x10mm, Pitch 0.8mm, IPC Medium Density)
footprint MQFP-KW44_L (QFP, 44-Leads, Body 10x10mm, Pitch 0.8mm, IPC High Density)
footprint MQFP-KW44_M (QFP, 44-Leads, Body 10x10mm, Pitch 0.8mm, IPC Low Density)
pins: 1 B11 (hiz), 2 B10 (hiz), 3 B9 (hiz), 4 B8 (hiz), 5 B7 (hiz), 6 NC, 7 B6 (hiz), 8 B5 (hiz), 9 B4 (hiz), 10 B3 (hiz), 11 B2 (hiz), 12 B1 (hiz), 13 TEST (in), 14 ~{LBEN} (in), 15 ~{HBEN} (in), 16 ~{CE}/~{LOAD} (in), 17 NC, 18 MODE (in), 19 OSCIN (in), 20 OSCOUT (out), 21 OSCSEL (in), 22 BUFFOSCOUT (out), 23 RUN/~{HOLD} (in), 24 SEND (in), 25 V- (power), 26 REFOUT (power), 27 BUFF (out), 28 NC, 29 AZ, 30 INT (out), 31 COM (power), 32 INLO (in), 33 INHI (in), 34 REFIN+ (in), 35 REFCAP+, 36 REFCAP-, 37 REFIN- (in), 38 V+ (power), 39 NC, 40 GND (power), 41 STATUS (out), 42 POL (in), 43 OR (hiz), 44 B12 (hiz)

## TC7109CKW713
designator U?
12-Bit µA-Compatible Analog-to-Digital Converters, 44-Pin MQFP, Commercial Temperature, Tape and Reel; Published: 29-Jan-2009; DatasheetVersion: Feb-2006; PackageVersion: revBB, Aug-2009; PackageReference: MQFP-KW44; Publisher: Altium Limited; PackageDescription: 44-Lead Plastic Metric Quad Flatpack (KW) - 10x10x2mm Body, 3.20mm [MQFP]; Supplier 1: Digi-Key; Supplier Part Number 1: TC7109CKW713-ND; Code_JEDEC: MS-022-AB; Code_IPC: QFP80P1320X1320-44; ComponentLink1Description: Datasheet; ComponentLink1URL: http://ww1.microchip.com/downloads/en/DeviceDoc/21456C.pdf; ComponentLink2Description: Packaging Specification; ComponentLink2URL: http://www.microchip.com/stellent/groups/techpub_sg/documents/packagingspec/en012702.pdf; ComponentLink3Description: Microchip.com Home; ComponentLink3URL: http://www.microchip.com/
footprint MQFP-KW44_N (QFP, 44-Leads, Body 10x10mm, Pitch 0.8mm, IPC Medium Density)
footprint MQFP-KW44_L (QFP, 44-Leads, Body 10x10mm, Pitch 0.8mm, IPC High Density)
footprint MQFP-KW44_M (QFP, 44-Leads, Body 10x10mm, Pitch 0.8mm, IPC Low Density)
pins: 1 B11 (hiz), 2 B10 (hiz), 3 B9 (hiz), 4 B8 (hiz), 5 B7 (hiz), 6 NC, 7 B6 (hiz), 8 B5 (hiz), 9 B4 (hiz), 10 B3 (hiz), 11 B2 (hiz), 12 B1 (hiz), 13 TEST (in), 14 ~{LBEN} (in), 15 ~{HBEN} (in), 16 ~{CE}/~{LOAD} (in), 17 NC, 18 MODE (in), 19 OSCIN (in), 20 OSCOUT (out), 21 OSCSEL (in), 22 BUFFOSCOUT (out), 23 RUN/~{HOLD} (in), 24 SEND (in), 25 V- (power), 26 REFOUT (power), 27 BUFF (out), 28 NC, 29 AZ, 30 INT (out), 31 COM (power), 32 INLO (in), 33 INHI (in), 34 REFIN+ (in), 35 REFCAP+, 36 REFCAP-, 37 REFIN- (in), 38 V+ (power), 39 NC, 40 GND (power), 41 STATUS (out), 42 POL (in), 43 OR (hiz), 44 B12 (hiz)

## TC7109CLW
designator U?
12-Bit µA-Compatible Analog-to-Digital Converters, 44-Pin PLCC, Commercial Temperature; Published: 29-Jan-2009; DatasheetVersion: Feb-2006; PackageVersion: revBB, Aug-2009; PackageReference: PLCC-LW44; Publisher: Altium Limited; PackageDescription: 44-Lead Plastic Leaded Chip Carrier (LW) - Square [PLCC]; Supplier 1: Digi-Key; Supplier Part Number 1: TC7109CLW-ND; Code_IPC: PLCC-44; ComponentLink1Description: Datasheet; ComponentLink1URL: http://ww1.microchip.com/downloads/en/DeviceDoc/21456C.pdf; ComponentLink2Description: Packaging Specification; ComponentLink2URL: http://www.microchip.com/stellent/groups/techpub_sg/documents/packagingspec/en012702.pdf; ComponentLink3Description: Microchip.com Home; ComponentLink3URL: http://www.microchip.com/
footprint PLCC-LW44_N (Leaded Chip Carrier, 44-Leads, Body 16.6x16.6mm, Pitch 1.27mm, IPC Medium Density)
footprint PLCC-LW44_L (Leaded Chip Carrier, 44-Leads, Body 16.6x16.6mm, Pitch 1.27mm, IPC High Density)
footprint PLCC-LW44_M (Leaded Chip Carrier, 44-Leads, Body 16.6x16.6mm, Pitch 1.27mm, IPC Low Density)
pins: 1 B11 (hiz), 2 B10 (hiz), 3 B9 (hiz), 4 B8 (hiz), 5 B7 (hiz), 6 NC, 7 B6 (hiz), 8 B5 (hiz), 9 B4 (hiz), 10 B3 (hiz), 11 B2 (hiz), 12 B1 (hiz), 13 TEST (in), 14 ~{LBEN} (in), 15 ~{HBEN} (in), 16 ~{CE}/~{LOAD} (in), 17 NC, 18 MODE (in), 19 OSCIN (in), 20 OSCOUT (out), 21 OSCSEL (in), 22 BUFFOSCOUT (out), 23 RUN/~{HOLD} (in), 24 SEND (in), 25 V- (power), 26 REFOUT (power), 27 BUFF (out), 28 NC, 29 AZ, 30 INT (out), 31 COM (power), 32 INLO (in), 33 INHI (in), 34 REFIN+ (in), 35 REFCAP+, 36 REFCAP-, 37 REFIN- (in), 38 V+ (power), 39 NC, 40 GND (power), 41 STATUS (out), 42 POL (in), 43 OR (hiz), 44 B12 (hiz)

## TC7109CPL
designator U?
12-Bit µA-Compatible Analog-to-Digital Converters, 40-Pin PDIP, Commercial Temperature; Published: 29-Jan-2009; DatasheetVersion: Feb-2006; PackageVersion: revBB, Aug-2009; PackageReference: PDIP600-PL40; Publisher: Altium Limited; PackageDescription: 40-Lead Plastic Dual In-Line (PL) - 600mil Body [PDIP]; Supplier 1: Digi-Key; Supplier Part Number 1: TC7109CPL-ND; Supplier 2: Farnell; Supplier Part Number 2: 1196816; ComponentLink1Description: Datasheet; ComponentLink1URL: http://ww1.microchip.com/downloads/en/DeviceDoc/21456C.pdf; ComponentLink2Description: Packaging Specification; ComponentLink2URL: http://www.microchip.com/stellent/groups/techpub_sg/documents/packagingspec/en012702.pdf; ComponentLink3Description: Microchip.com Home; ComponentLink3URL: http://www.microchip.com/
footprint PDIP600-PL40 (DIP, 40-Leads, Row Spacing 15.24mm, Pitch 2.54mm, Body 51.8x13.5mm)
pins: 1 GND (power), 2 STATUS (out), 3 POL (in), 4 OR (hiz), 5 B12 (hiz), 6 B11 (hiz), 7 B10 (hiz), 8 B9 (hiz), 9 B8 (hiz), 10 B7 (hiz), 11 B6 (hiz), 12 B5 (hiz), 13 B4 (hiz), 14 B3 (hiz), 15 B2 (hiz), 16 B1 (hiz), 17 TEST (in), 18 ~{LBEN} (in), 19 ~{HBEN} (in), 20 ~{CE}/~{LOAD} (in), 21 MODE (in), 22 OSCIN (in), 23 OSCOUT (out), 24 OSCSEL (in), 25 BUFFOSCOUT (out), 26 RUN/~{HOLD} (in), 27 SEND (in), 28 V- (power), 29 REFOUT (power), 30 BUFF (out), 31 AZ, 32 INT (out), 33 COM (power), 34 INLO (in), 35 INHI (in), 36 REFIN+ (in), 37 REFCAP+, 38 REFCAP-, 39 REFIN- (in), 40 V+ (power)

## TC7116ACKW
designator U?
3-1/2 Digit Analog-to-Digital Converters with Hold, 44-Pin MQFP, Commercial Temperature; Published: 29-Jan-2009; DatasheetVersion: Feb-2006; PackageVersion: revBB, Aug-2009; PackageReference: MQFP-KW44; Publisher: Altium Limited; PackageDescription: 44-Lead Plastic Metric Quad Flatpack (KW) - 10x10x2mm Body, 3.20mm [MQFP]; Supplier 1: Digi-Key; Supplier Part Number 1: TC7116ACKW-ND; Code_JEDEC: MS-022-AB; Code_IPC: QFP80P1320X1320-44; ComponentLink1Description: Datasheet; ComponentLink1URL: http://ww1.microchip.com/downloads/en/DeviceDoc/21457C.pdf; ComponentLink2Description: Packaging Specification; ComponentLink2URL: http://www.microchip.com/stellent/groups/techpub_sg/documents/packagingspec/en012702.pdf; ComponentLink3Description: Microchip.com Home; ComponentLink3URL: http://www.microchip.com/
footprint MQFP-KW44_N (QFP, 44-Leads, Body 10x10mm, Pitch 0.8mm, IPC Medium Density)
footprint MQFP-KW44_L (QFP, 44-Leads, Body 10x10mm, Pitch 0.8mm, IPC High Density)
footprint MQFP-KW44_M (QFP, 44-Leads, Body 10x10mm, Pitch 0.8mm, IPC Low Density)
pins: 1 NC, 2 NC, 3 TEST (in), 4 OSC3, 5 NC, 6 OSC2, 7 OSC1, 8 HLDR, 9 D1 (out), 10 C1 (out), 11 B1 (out), 12 A1 (out), 13 F1 (out), 14 G1 (out), 15 E1 (out), 16 D2 (out), 17 C2 (out), 18 B2 (out), 19 A2 (out), 20 F2 (out), 21 E2 (out), 22 D3 (out), 23 B3 (out), 24 F3 (out), 25 E3 (out), 26 AB4 (out), 27 POL (out), 28 BP (out), 29 G3 (out), 30 A3 (out), 31 C3 (out), 32 G2 (out), 33 NC, 34 V- (power), 35 VINT (out), 36 VBUFF, 37 CAZ, 38 VIN- (in), 39 VIN+ (in), 40 COM (power), 41 CREF-, 42 CREF+, 43 V+ (power), 44 VREF+ (in)

## TC7116ACKWPB
designator U?
3-1/2 Digit Analog-to-Digital Converters with Hold, 44-Pin MQFP, Commercial Temperature; ComponentAvailability: Unknown. Contact manufacturer to determine status.; Published: 29-Jan-2009; DatasheetVersion: Feb-2006; PackageVersion: revBB, Aug-2009; PackageReference: MQFP-KW44; Publisher: Altium Limited; PackageDescription: 44-Lead Plastic Metric Quad Flatpack (KW) - 10x10x2mm Body, 3.20mm [MQFP]; Code_JEDEC: MS-022-AB; Code_IPC: QFP80P1320X1320-44; ComponentLink1Description: Datasheet; ComponentLink1URL: http://ww1.microchip.com/downloads/en/DeviceDoc/21457C.pdf; ComponentLink2Description: Packaging Specification; ComponentLink2URL: http://www.microchip.com/stellent/groups/techpub_sg/documents/packagingspec/en012702.pdf; ComponentLink3Description: Microchip.com Home; ComponentLink3URL: http://www.microchip.com/
footprint MQFP-KW44_N (QFP, 44-Leads, Body 10x10mm, Pitch 0.8mm, IPC Medium Density)
footprint MQFP-KW44_L (QFP, 44-Leads, Body 10x10mm, Pitch 0.8mm, IPC High Density)
footprint MQFP-KW44_M (QFP, 44-Leads, Body 10x10mm, Pitch 0.8mm, IPC Low Density)
pins: 1 NC, 2 NC, 3 TEST (in), 4 OSC3, 5 NC, 6 OSC2, 7 OSC1, 8 HLDR, 9 D1 (out), 10 C1 (out), 11 B1 (out), 12 A1 (out), 13 F1 (out), 14 G1 (out), 15 E1 (out), 16 D2 (out), 17 C2 (out), 18 B2 (out), 19 A2 (out), 20 F2 (out), 21 E2 (out), 22 D3 (out), 23 B3 (out), 24 F3 (out), 25 E3 (out), 26 AB4 (out), 27 POL (out), 28 BP (out), 29 G3 (out), 30 A3 (out), 31 C3 (out), 32 G2 (out), 33 NC, 34 V- (power), 35 VINT (out), 36 VBUFF, 37 CAZ, 38 VIN- (in), 39 VIN+ (in), 40 COM (power), 41 CREF-, 42 CREF+, 43 V+ (power), 44 VREF+ (in)

## TC7116ACLW
designator U?
3-1/2 Digit Analog-to-Digital Converters with Hold, 44-Pin PLCC, Commercial Temperature; Published: 29-Jan-2009; DatasheetVersion: Feb-2006; PackageVersion: revBB, Aug-2009; PackageReference: PLCC-LW44; Publisher: Altium Limited; PackageDescription: 44-Lead Plastic Leaded Chip Carrier (LW) - Square [PLCC]; Supplier 1: Digi-Key; Supplier Part Number 1: TC7116ACLW-ND; Code_IPC: PLCC-44; ComponentLink1Description: Datasheet; ComponentLink1URL: http://ww1.microchip.com/downloads/en/DeviceDoc/21457C.pdf; ComponentLink2Description: Packaging Specification; ComponentLink2URL: http://www.microchip.com/stellent/groups/techpub_sg/documents/packagingspec/en012702.pdf; ComponentLink3Description: Microchip.com Home; ComponentLink3URL: http://www.microchip.com/
footprint PLCC-LW44_N (Leaded Chip Carrier, 44-Leads, Body 16.6x16.6mm, Pitch 1.27mm, IPC Medium Density)
footprint PLCC-LW44_L (Leaded Chip Carrier, 44-Leads, Body 16.6x16.6mm, Pitch 1.27mm, IPC High Density)
footprint PLCC-LW44_M (Leaded Chip Carrier, 44-Leads, Body 16.6x16.6mm, Pitch 1.27mm, IPC Low Density)
pins: 1 NC, 2 NC, 3 TEST (in), 4 OSC3, 5 NC, 6 OSC2, 7 OSC1, 8 HLDR, 9 D1 (out), 10 C1 (out), 11 B1 (out), 12 A1 (out), 13 F1 (out), 14 G1 (out), 15 E1 (out), 16 D2 (out), 17 C2 (out), 18 B2 (out), 19 A2 (out), 20 F2 (out), 21 E2 (out), 22 D3 (out), 23 B3 (out), 24 F3 (out), 25 E3 (out), 26 AB4 (out), 27 POL (out), 28 BP (out), 29 G3 (out), 30 A3 (out), 31 C3 (out), 32 G2 (out), 33 NC, 34 V- (power), 35 VINT (out), 36 VBUFF, 37 CAZ, 38 VIN- (in), 39 VIN+ (in), 40 COM (power), 41 CREF-, 42 CREF+, 43 V+ (power), 44 VREF+ (in)

## TC7116ACPL
designator U?
3-1/2 Digit Analog-to-Digital Converters with Hold, 40-Pin PDIP, Commercial Temperature; Published: 29-Jan-2009; DatasheetVersion: Feb-2006; PackageVersion: revBB, Aug-2009; PackageReference: PDIP600-PL40; Publisher: Altium Limited; PackageDescription: 40-Lead Plastic Dual In-Line (PL) - 600mil Body [PDIP]; Supplier 1: Digi-Key; Supplier Part Number 1: TC7116ACPL-ND; ComponentLink1Description: Datasheet; ComponentLink1URL: http://ww1.microchip.com/downloads/en/DeviceDoc/21457C.pdf; ComponentLink2Description: Packaging Specification; ComponentLink2URL: http://www.microchip.com/stellent/groups/techpub_sg/documents/packagingspec/en012702.pdf; ComponentLink3Description: Microchip.com Home; ComponentLink3URL: http://www.microchip.com/
footprint PDIP600-PL40 (DIP, 40-Leads, Row Spacing 15.24mm, Pitch 2.54mm, Body 51.8x13.5mm)
pins: 1 HLDR (in), 2 D1 (out), 3 C1 (out), 4 B1 (out), 5 A1 (out), 6 F1 (out), 7 G1 (out), 8 E1 (out), 9 D2 (out), 10 C2 (out), 11 B2 (out), 12 A2 (out), 13 F2 (out), 14 E2 (out), 15 D3 (out), 16 B3 (out), 17 F3 (out), 18 E3 (out), 19 AB4 (out), 20 POL (out), 21 BP (out), 22 G3 (out), 23 A3 (out), 24 C3 (out), 25 G2 (out), 26 V- (power), 27 VINT (out), 28 VBUFF, 29 CAZ, 30 VIN- (in), 31 VIN+ (in), 32 COM (power), 33 CREF-, 34 CREF+, 35 V+ (power), 36 VREF+ (in), 37 TEST (in), 38 OSC3, 39 OSC2, 40 OSC1

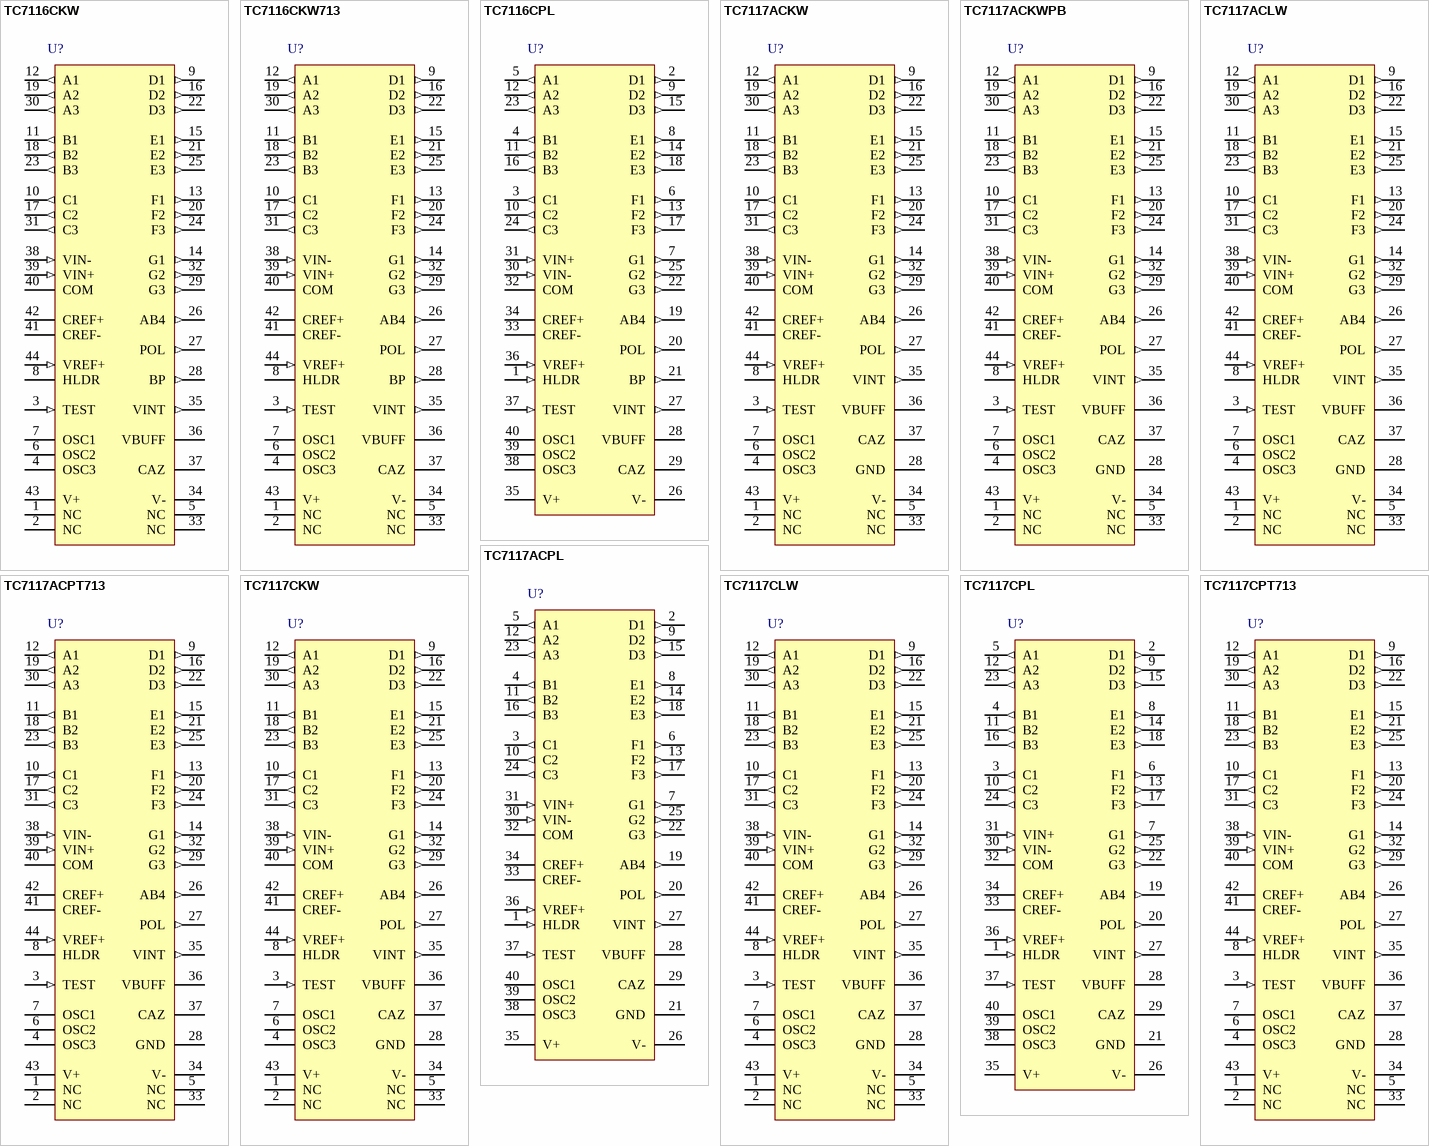
[diagram p29: symbols TC7116CKW to TC7117CPT713]

## TC7116CKW
designator U?
3-1/2 Digit Analog-to-Digital Converters with Hold, 44-Pin MQFP, Commercial Temperature; ComponentAvailability: Unknown. Contact manufacturer to determine status.; Published: 29-Jan-2009; DatasheetVersion: Feb-2006; PackageVersion: revBB, Aug-2009; PackageReference: MQFP-KW44; Publisher: Altium Limited; PackageDescription: 44-Lead Plastic Metric Quad Flatpack (KW) - 10x10x2mm Body, 3.20mm [MQFP]; Supplier 1: Digi-Key; Supplier Part Number 1: TC7116CKW-ND; Code_JEDEC: MS-022-AB; Code_IPC: QFP80P1320X1320-44; ComponentLink1Description: Datasheet; ComponentLink1URL: http://ww1.microchip.com/downloads/en/DeviceDoc/21457C.pdf; ComponentLink2Description: Packaging Specification; ComponentLink2URL: http://www.microchip.com/stellent/groups/techpub_sg/documents/packagingspec/en012702.pdf; ComponentLink3Description: Microchip.com Home; ComponentLink3URL: http://www.microchip.com/
footprint MQFP-KW44_N (QFP, 44-Leads, Body 10x10mm, Pitch 0.8mm, IPC Medium Density)
footprint MQFP-KW44_L (QFP, 44-Leads, Body 10x10mm, Pitch 0.8mm, IPC High Density)
footprint MQFP-KW44_M (QFP, 44-Leads, Body 10x10mm, Pitch 0.8mm, IPC Low Density)
pins: 1 NC, 2 NC, 3 TEST (in), 4 OSC3, 5 NC, 6 OSC2, 7 OSC1, 8 HLDR, 9 D1 (out), 10 C1 (out), 11 B1 (out), 12 A1 (out), 13 F1 (out), 14 G1 (out), 15 E1 (out), 16 D2 (out), 17 C2 (out), 18 B2 (out), 19 A2 (out), 20 F2 (out), 21 E2 (out), 22 D3 (out), 23 B3 (out), 24 F3 (out), 25 E3 (out), 26 AB4 (out), 27 POL (out), 28 BP (out), 29 G3 (out), 30 A3 (out), 31 C3 (out), 32 G2 (out), 33 NC, 34 V- (power), 35 VINT (out), 36 VBUFF, 37 CAZ, 38 VIN- (in), 39 VIN+ (in), 40 COM (power), 41 CREF-, 42 CREF+, 43 V+ (power), 44 VREF+ (in)